# EAGLE library part HD3SS6126 (library EXCISS)
HD3SS6126RUAR USB 3.0 + USB2.0 Differential Switch 2:1/1:2 MUX/DEMUX Links Datasheet <http://www.ti.com/lit/gpn/hd3ss6126> Product website <http://www.ti.com/product/HD3SS6126> Features Signal Switch for USB 3.0 (SuperSpeed USB and USB 2.0 HS/FS/LS) Three Bidirectional Differential Pair Channel MUX/DEMUX Switches Also Suitable for DisplayPort, PCIe Gen1/2/3, SATA 1.5/3/6G, SAS 1.5/3/6G and XAUI Applications Supports Data Rates up to 10 Gbps on High- Bandwidth Path (SS) VCC Operating Range 3.3 V ± 10% Wide –3-dB Differential BW of More Than 10 GHz on High-Bandwidth Path (SS) Uses a Unique Adaptation Method to Maintain a Constant Channel Impedance Over the Supported Common-Mode Voltage Range Excellent High-bandwidth Path Dynamic Characteristics (at 2.5 GHz) Crosstalk = –35 dB Isolation = –23 dB Insertion Loss = –1.1 dB Return Loss = –11 dB Small 3.5 mm × 9 mm, 42-Pin WQFN Package (RUA) Active Mode Power = 8 mW
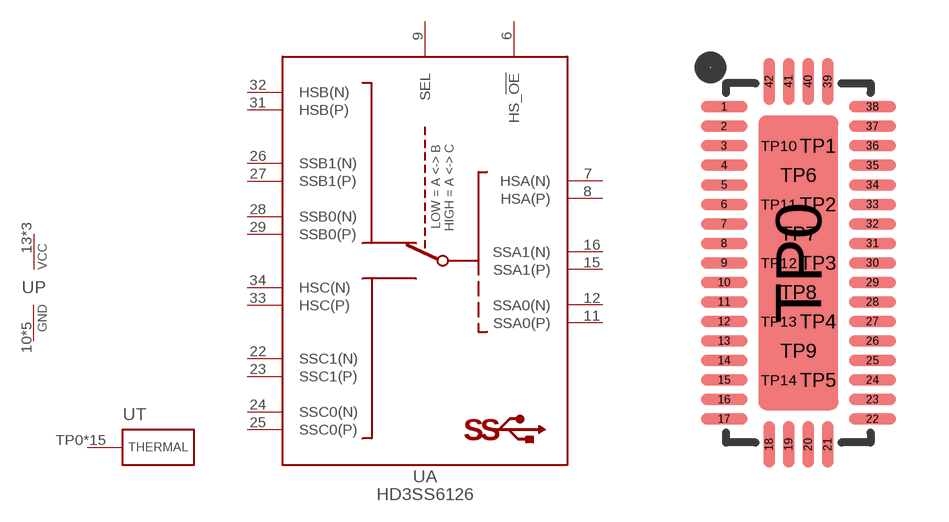
[diagram p0: symbol with the pads of RUA(R-PWQFN-N42); footprint RUA(R-PWQFN-N42)]

Designator prefix U; gates A=HD3SS6126 T=THERMAL P=POWER

## HD3SS6126RUA (OC_MOUSER: 595-HD3SS6126RUAR)  [RUA(R-PWQFN-N42)]
6  A:HS_!OE  in
7  A:HSA(N)
8  A:HSA(P)
9  A:SEL  in
10  P:GND  pwr
11  A:SSA0(P)
12  A:SSA0(N)
13  P:VCC  pwr
14  P:GND  pwr
15  A:SSA1(P)
16  A:SSA1(N)
17  P:GND  pwr
19  P:GND  pwr
20  P:VCC  pwr
21  P:GND  pwr
22  A:SSC1(N)
23  A:SSC1(P)
24  A:SSC0(N)
25  A:SSC0(P)
26  A:SSB1(N)
27  A:SSB1(P)
28  A:SSB0(N)
29  A:SSB0(P)
30  P:VCC  pwr
31  A:HSB(P)
32  A:HSB(N)
33  A:HSC(P)
34  A:HSC(N)
TP0  T:GND  pwr
TP1  T:GND  pwr
TP2  T:GND  pwr
TP3  T:GND  pwr
TP4  T:GND  pwr
TP5  T:GND  pwr
TP6  T:GND  pwr
TP7  T:GND  pwr
TP8  T:GND  pwr
TP9  T:GND  pwr
TP10  T:GND  pwr
TP11  T:GND  pwr
TP12  T:GND  pwr
TP13  T:GND  pwr
TP14  T:GND  pwr

## Footprint RUA(R-PWQFN-N42) (pad centres in mm)
smd 1.2 x 0.3: 1 -1.9,4; 2 -1.9,3.5; 3 -1.9,3; 4 -1.9,2.5; 5 -1.9,2; 6 -1.9,1.5; 7 -1.9,1; 8 -1.9,0.5; 9 -1.9,0; 10 -1.9,-0.5; 11 -1.9,-1; 12 -1.9,-1.5; 13 -1.9,-2; 14 -1.9,-2.5; 15 -1.9,-3; 16 -1.9,-3.5; 17 -1.9,-4; 22 1.9,-4; 23 1.9,-3.5; 24 1.9,-3; 25 1.9,-2.5; 26 1.9,-2; 27 1.9,-1.5; 28 1.9,-1; 29 1.9,-0.5; 30 1.9,0; 31 1.9,0.5; 32 1.9,1; 33 1.9,1.5; 34 1.9,2; 35 1.9,2.5; 36 1.9,3; 37 1.9,3.5; 38 1.9,4
smd 0.3 x 1.2: 18 -0.75,-4.65; 19 -0.25,-4.65; 20 0.25,-4.65; 21 0.75,-4.65; 39 0.75,4.65; 40 0.25,4.65; 41 -0.25,4.65; 42 -0.75,4.65
smd 2.05 x 7.55: TP0 0,0
drill 0.3: TP1 0.5,3; TP2 0.5,1.5; TP3 0.5,0; TP4 0.5,-1.5; TP5 0.5,-3; TP6 0,2.25; TP7 0,0.75; TP8 0,-0.75; TP9 0,-2.25; TP10 -0.5,3; TP11 -0.5,1.5; TP12 -0.5,0; TP13 -0.5,-1.5; TP14 -0.5,-3